# EAGLE library part ADT7420 (library thermo_lib)
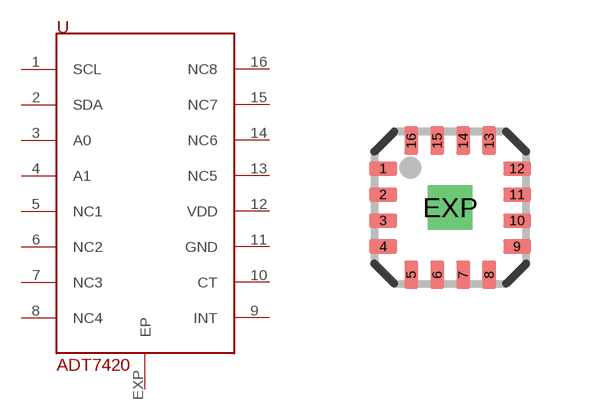
[diagram p0: symbol with the pads of LFCSP16; footprint LFCSP16]

Designator prefix -

## ADT7420  [LFCSP16]
1  SCL
2  SDA
3  A0
4  A1
5  NC1
6  NC2
7  NC3
8  NC4
9  INT
10  CT
11  GND
12  VDD
13  NC5
14  NC6
15  NC7
16  NC8
EXP  EP

## Footprint LFCSP16 (pad centres in mm)
16-Terminal Leadless Frame Chip Scale Package [LFCSP] (CP) Source: Analog Devices .. 780914713ADD8704_0.pdf
smd 0.7 x 0.35: 1 -1.675,0.975; 2 -1.675,0.325; 3 -1.675,-0.325; 4 -1.675,-0.975; 9 1.675,-0.975; 10 1.675,-0.325; 11 1.675,0.325; 12 1.675,0.975
smd 0.35 x 0.7: 5 -0.975,-1.675; 6 -0.325,-1.675; 7 0.325,-1.675; 8 0.975,-1.675; 13 0.975,1.675; 14 0.325,1.675; 15 -0.325,1.675; 16 -0.975,1.675
drill 0.6 square: EXP 0,0